# Altium schematic symbol library tps16630pwpr.SchLib: 1 symbol
Pins are listed as number, name and electrical type; pins without a type are passive.

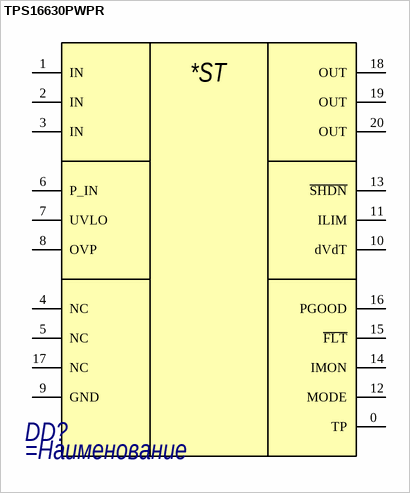
[diagram p0: symbol TPS16630PWPR]

## TPS16630PWPR
designator DD?
=Описание
pins: 0 TP, 1 IN, 2 IN, 3 IN, 4 NC, 5 NC, 6 P_IN, 7 UVLO, 8 OVP, 9 GND, 10 dVdT, 11 ILIM, 12 MODE, 13 ~{SHDN}, 14 IMON, 15 ~{FLT}, 16 PGOOD, 17 NC, 18 OUT, 19 OUT, 20 OUT
text: *ST